# EAGLE library part DUMMY (library circuit_tree)
IC
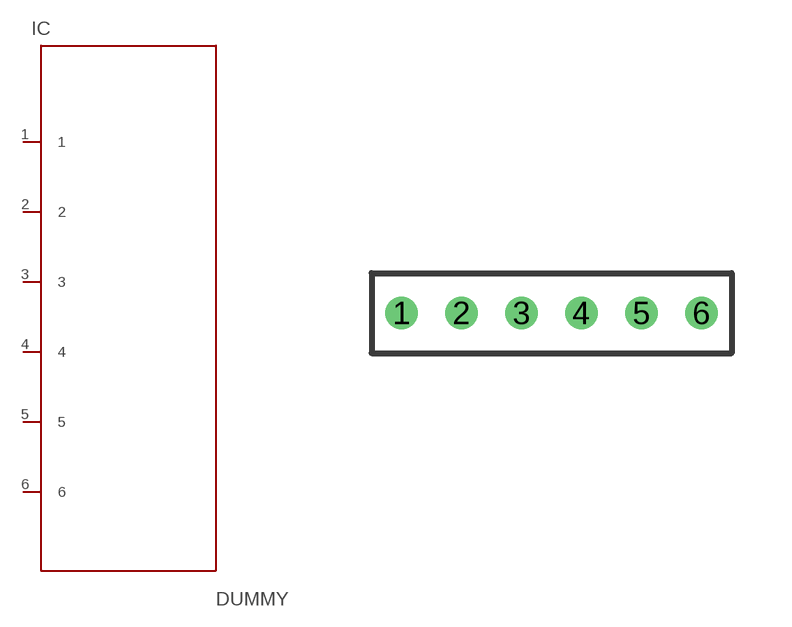
[diagram p1: symbol with the pads of DUMMY_PACKAGE_150; footprint DUMMY_PACKAGE_150]

Designator prefix IC

## DUMMY  [DUMMY_PACKAGE_150]
1  1  pas
2  2  pas
3  3  pas
4  4  pas
5  5  pas
6  6  pas

## Footprint DUMMY_PACKAGE_150 (pad centres in mm)
drill 0.3: 1 0,-1; 2 1.5,-1; 3 3,-1; 4 4.5,-1; 5 6,-1; 6 7.5,-1